# Altium schematic symbol library Current Measurement Sensors.SchLib: 1 symbol
Pins are listed as number, name and electrical type; pins without a type are passive.

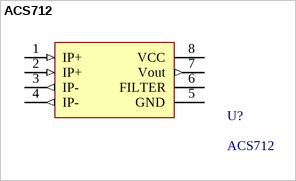
[diagram p0: symbol ACS712]

## ACS712
designator U?
Current Sensor 30A AC/DC 1 Channel Hall Effect, Open Loop Bidirectional 8-SOIC (0.154", 3.90mm Width); Manufacturer 1: Allegro MicroSystems, LLC; Manufacturer 1 PN: ACS712ELCTR-30A-T
footprint ACS712 (Current Sensor 30A AC/DC 1 Channel Hall Effect, Open Loop Bidirectional 8-SOIC (0.154", 3.90mm Width))
pins: 1 IP+ (in) "Terminals for current being sensed; fused internally", 2 IP+ (in) "Terminals for current being sensed; fused internally", 3 IP- (out) "Terminals for current being sensed; fused internally", 4 IP- (out) "Terminals for current being sensed; fused internally", 5 GND (power) "Signal ground terminal", 6 FILTER "Terminal for external capacitor that sets bandwidth", 7 Vout (out) "Analog output signal", 8 VCC (power) "Device power supply terminal"